# Altium footprint library mrsl.PcbLib: 218 footprints (part 14 of 14)
Each footprint in its own frame and in the unit in brackets; x right, y up, seen from the top. Pads: shape width x height; smd on the part's side, far side on the other; paste and mask are expansions set on the pad; w line width, h text height; cw(c..) or ccw(c..) is an arc to the next point about the centre after c.
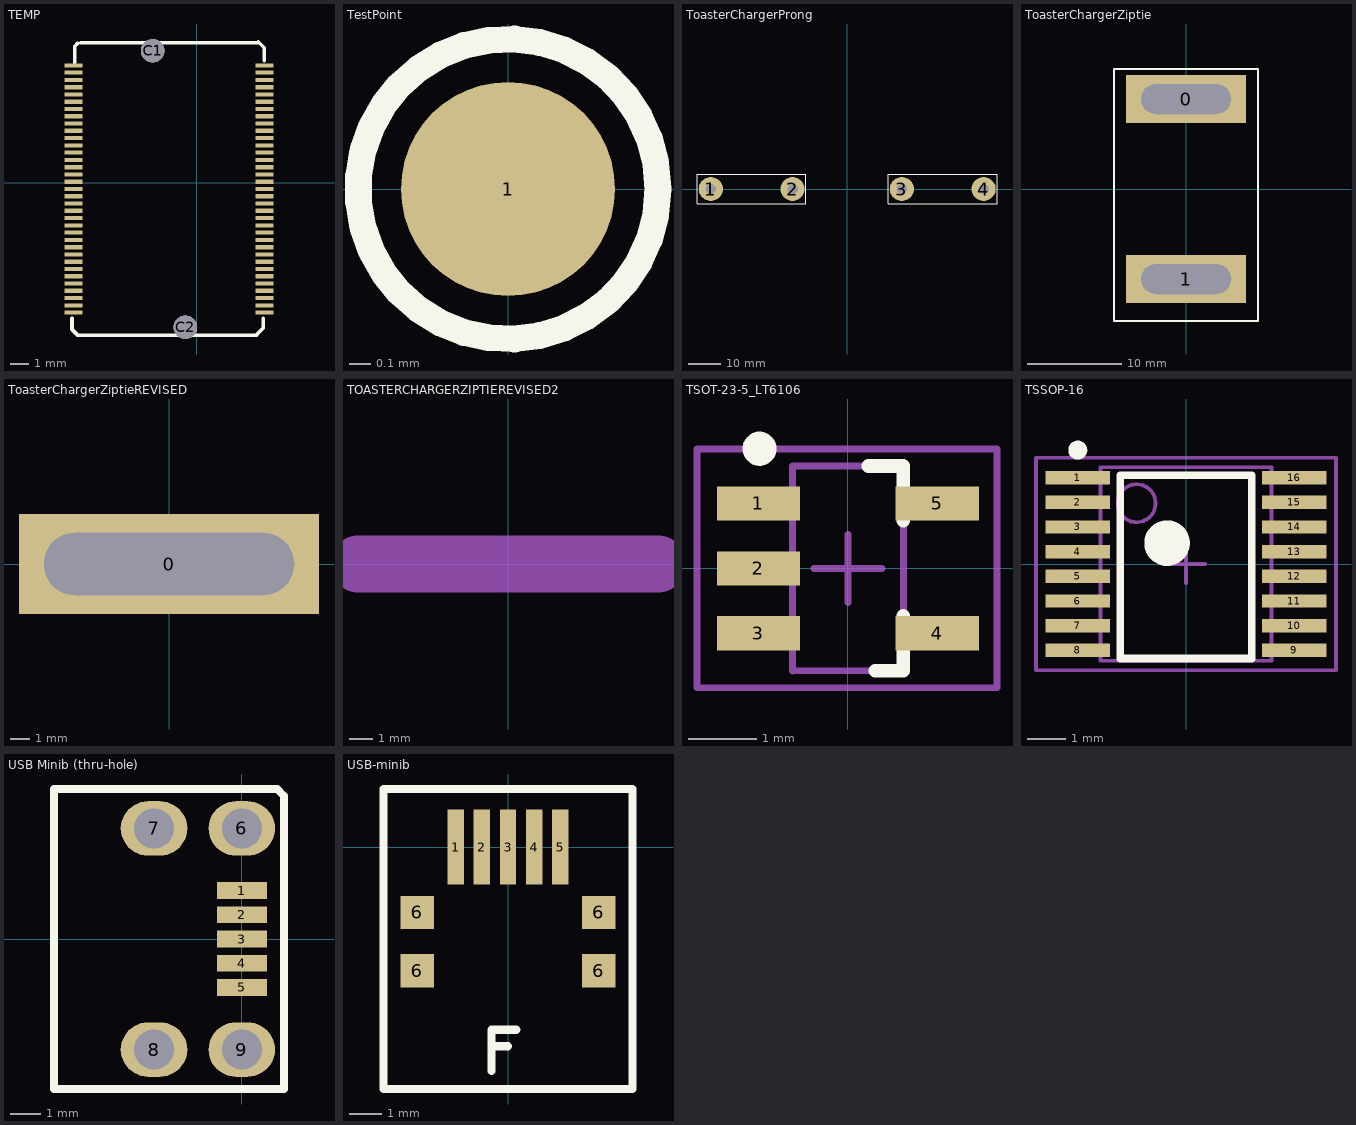
[diagram p13: the footprints below, top view; thin cyan lines are the x and y axes]

## TEMP [mm]
pads (72):
  rect 1x0.23 smd: 1(-6.774,6.47) 2(-6.774,6.07) 3(-6.774,5.67) 4(-6.774,5.27) 5(-6.774,4.87) 6(-6.774,4.47) 7(-6.774,4.07) 8(-6.774,3.67) 9(-6.774,3.27) 10(-6.774,2.87) 11(-6.774,2.47) 12(-6.774,2.07) 13(-6.774,1.67) 14(-6.774,1.27) 15(-6.774,0.87) 16(-6.774,0.47) 17(-6.774,0.07) 18(-6.774,-0.33) 19(-6.774,-0.73) 20(-6.774,-1.13) 21(-6.774,-1.53) 22(-6.774,-1.93) 23(-6.774,-2.33) 24(-6.774,-2.73) 25(-6.774,-3.13) 26(-6.774,-3.53) 27(-6.774,-3.93) 28(-6.774,-4.33) 29(-6.774,-4.73) 30(-6.774,-5.13) 31(-6.774,-5.53) 32(-6.774,-5.93) 33(-6.774,-6.33) 34(-6.774,-6.73) 35(-6.774,-7.13) 36(3.726,-7.13) 37(3.726,-6.73) 38(3.726,-6.33) 39(3.726,-5.93) 40(3.726,-5.53) 41(3.726,-5.13) 42(3.726,-4.73) 43(3.726,-4.33) 44(3.726,-3.93) 45(3.726,-3.53) 46(3.726,-3.13) 47(3.726,-2.73) 48(3.726,-2.33) 49(3.726,-1.93) 50(3.726,-1.53) 51(3.726,-1.13) 52(3.726,-0.73) 53(3.726,-0.33) 54(3.726,0.07) 55(3.726,0.47) 56(3.726,0.87) 57(3.726,1.27) 58(3.726,1.67) 59(3.726,2.07) 60(3.726,2.47) 61(3.726,2.87) 62(3.726,3.27) 63(3.726,3.67) 64(3.726,4.07) 65(3.726,4.47) 66(3.726,4.87) 67(3.726,5.27) 68(3.726,5.67) 69(3.726,6.07) 70(3.726,6.47)
  round 1.3 hole 1.3: C1(-2.424,7.27) C2(-0.624,-7.93)
Top Overlay:
  lines w0.2: -6.858,-7.442 -6.858,-8.052 -6.528,-8.382 ; -6.706,6.604 -6.706,7.518 -6.553,7.671 ; -6.528,-8.38 3.302,-8.38 ; -6.375,7.72 3.378,7.72 ; 3.251,-8.382 3.658,-7.976 3.658,-7.442 ; 3.378,7.772 3.708,7.442 3.708,6.731

## TestPoint [mil]
pads (1):
  round 40 smd: 1(0,0)
Top Overlay:
  circle w5: c0,0 r28

## ToasterChargerProng [mil] "PCB footprint for toaster Charger clips"
pads (4):
  round 290 hole 125: 1(-1632.6,0) 2(-654.6,0) 3(654.6,0) 4(1632.6,0)
Top Overlay:
  lines w10: -1798.6,-175 -1798.6,175 -493.6,175 -493.6,-175 -1793.6,-175 ; 488.6,-175 488.6,175 1793.6,175 1793.6,-175 493.6,-175

## ToasterChargerZiptie [mm] "Ziptie slot design for fastening PCB to toaster charger."
pads (2):
  rect 12.7x5.08 hole 3.175 slot 9.525 at 0 deg: 0(0,9.525) 1(0,-9.525)
Top Overlay:
  lines w0.254: -7.62,-13.97 7.62,-13.97 7.62,12.7 -7.62,12.7 -7.62,-13.97

## ToasterChargerZiptieREVISED [mm] "A revised version of the ziptie component. The old one was kept in case it is needed later."
pads (1):
  rect 15.24x5.08 hole 3.175 slot 12.7 at 0 deg: 0(0,0)

## TOASTERCHARGERZIPTIEREVISED2 [mm] "2nd revision for Ziptie for Toaster charger, now a cut on the mechanical layer."
Mechanical 1:
  lines w2.4: -6.35,0 6.35,0

## TSOT-23-5_LT6106 [mm] "A SOT-23 package with 5 pins for LT6106"
height 1
pads (5):
  rect 1.22x0.5 smd: 1(-1.31,0.95) 2(-1.31,0) 3(-1.31,-0.95) 4(1.31,-0.95) 5(1.31,0.95)
Top Overlay:
  circle w0.25: c-1.293,1.753 r0.125
  lines w0.2: 0.3,1.499 0.813,1.499 0.813,0.7 ; 0.402,-1.5 0.802,-1.5 ; 0.813,-1.499 0.813,-0.699
Mechanical 13:
  lines w0.1: -0.813,-1.501 -0.813,1.499 ; -0.813,-1.5 0.813,-1.5 ; -0.8,1.5 0.8,1.5 ; 0.813,-1.501 0.813,1.499
Mechanical 15:
  lines w0.1: -0.5,0 0.5,0 ; 0,-0.5 0,0.5 ; -2.21,-1.75 -2.21,1.75 2.184,1.75 2.184,-1.75 -2.21,-1.75
3D body: height 1.2, standoff 0.01, extent -0.813,-1.499 0.838,1.499

## TSSOP-16 [mm] "DEMUX & SHIFT REGISTER"
height 1.2
pads (16):
  rect 1.7x0.35 smd: 1(-2.85,2.275) 2(-2.85,1.625) 3(-2.85,0.975) 4(-2.85,0.325) 5(-2.85,-0.325) 6(-2.85,-0.975) 7(-2.85,-1.625) 8(-2.85,-2.275) 9(2.85,-2.275) 10(2.85,-1.625) 11(2.85,-0.975) 12(2.85,-0.325) 13(2.85,0.325) 14(2.85,0.975) 15(2.85,1.625) 16(2.85,2.275)
Top Overlay:
  circle w0.6: c-0.5,0.55 r0.3
  circle w0.25: c-2.85,3 r0.125
  lines w0.2: -1.727,-2.489 1.727,-2.489 1.727,2.337 -1.727,2.337 -1.727,-2.489
Mechanical 13:
  circle w0.1: c-1.3,1.6 r0.5
  lines w0.1: -2.25,-2.55 2.25,-2.55 2.25,2.55 -2.25,2.55 -2.25,-2.55
Mechanical 15:
  lines w0.1: -0.5,0 0.5,0 ; 0,-0.5 0,0.5 ; -3.95,-2.8 3.95,-2.8 3.95,2.8 -3.95,2.8 -3.95,-2.8
3D body: height 1.2, standoff 0.1, extent -2.25,-2.55 2.25,2.55

## USB Minib (thru-hole) [mm]
pads (9):
  rect 1.65x0.55 smd: 1(0,1.6) 2(0,0.8) 3(0,0) 4(0,-0.8) 5(0,-1.6)
  oval 2.2x1.8 hole 1.321: 6(0,3.65) 7(-2.9,3.65) 8(-2.9,-3.65) 9(0,-3.65)
Top Overlay:
  lines w0.254: -6.2,-4.953 1.39,-4.953 1.39,4.73 1.167,4.953 -6.2,4.953 -6.2,-4.953
3D body: height 4, standoff 0.1, extent -6.172,-3.937 0,3.658

## USB-minib [mm] "USB minib connector"
height 0.8
pads (9):
  rect 0.5x2.3 smd: 1(-1.6,0) 2(-0.8,0) 3(0,0) 4(0.8,0) 5(1.6,0)
  rect 1.02x1.02 smd: 6(-2.78,-3.79)
  rect 1.02x1.02 smd paste+0: 6(-2.78,-2) 6(2.78,-3.79) 6(2.78,-2)
Top Overlay:
  lines w0.254: -3.81,-7.406 3.81,-7.406 ; -3.81,-7.366 -3.81,1.778 3.81,1.778 3.81,-7.366 ; -0.508,-6.858 -0.508,-5.588 0.254,-5.588 ; -0.508,-6.096 0,-6.096